# EAGLE library part REG104-5 (library NEWPARTS)
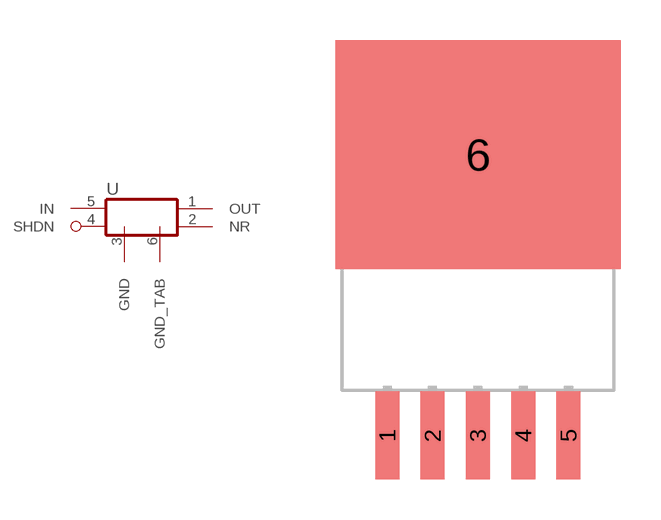
[diagram p12: symbol with the pads of DDPAK/TO-263; footprint DDPAK/TO-263]

Designator prefix -

## REG104-5  [DDPAK/TO-263]
1  OUT  nc
2  NR  nc
3  GND  nc
4  SHDN  nc
5  IN  nc
6  GND_TAB  nc

## Footprint DDPAK/TO-263 (pad centres in mm)
smd 0.9 x 3.3: 1 -3.4,0; 2 -1.7,0; 3 0,0; 4 1.7,0; 5 3.4,0
smd 10.7 x 8.6: 6 0,10.54